# Altium footprint library in3ator_components.PcbLib: 40 footprints (part 3 of 3)
Each footprint in its own frame and in the unit in brackets; x right, y up, seen from the top. Pads: shape width x height; smd on the part's side, far side on the other; paste and mask are expansions set on the pad; w line width, h text height; cw(c..) or ccw(c..) is an arc to the next point about the centre after c.
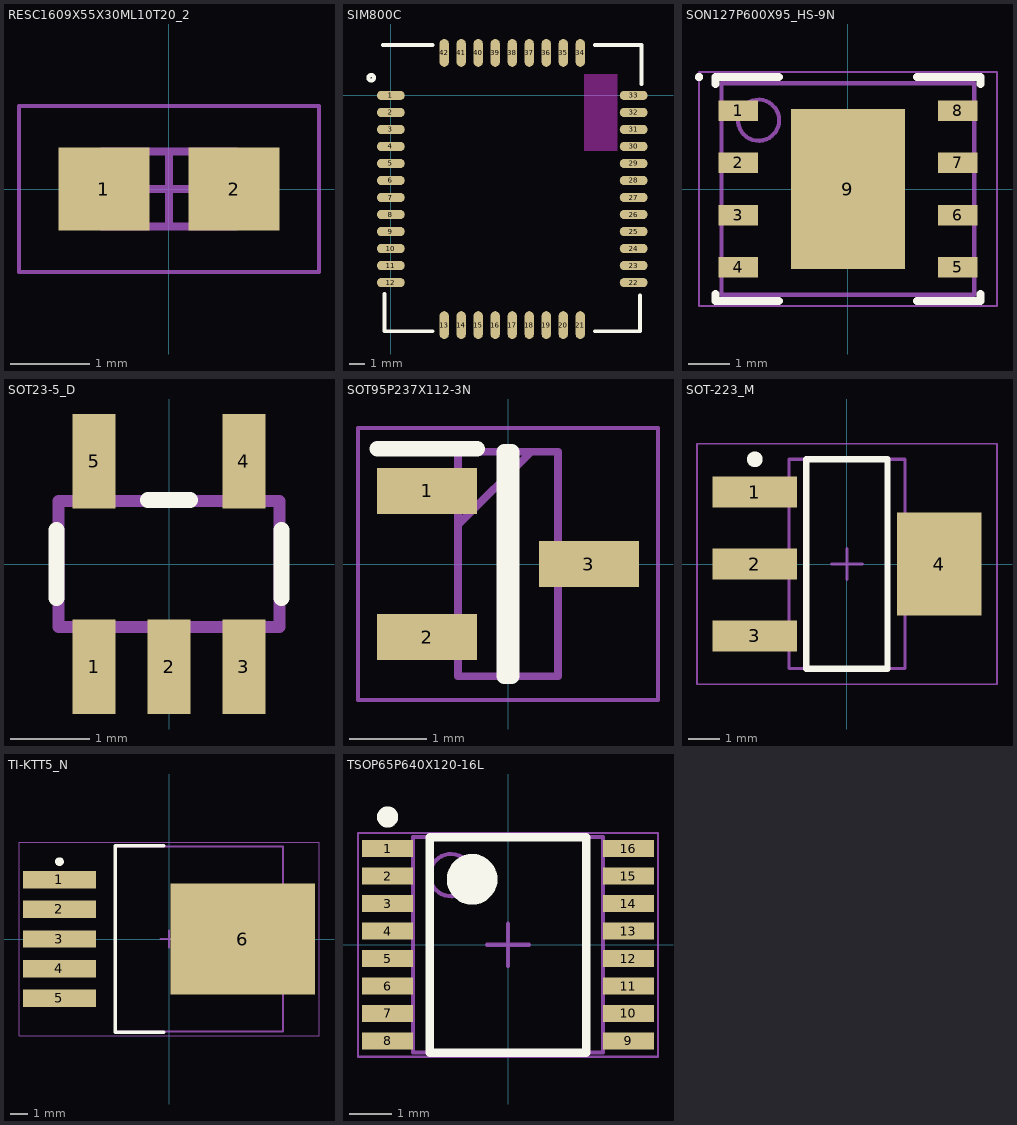
[diagram p2: the footprints below, top view; thin cyan lines are the x and y axes]

## RESC1609X55X30ML10T20_2 [mm]
pads (2):
  rect 1.15x1.05 smd: 1(-0.825,0) 2(0.825,0)
Mechanical 13:
  lines w0.1: -0.85,-0.475 -0.85,0.475 0.85,0.475 0.85,-0.475 -0.85,-0.475
Mechanical 15:
  lines w0.05: -1.9,-1.05 -1.9,1.05 1.9,1.05 1.9,-1.05 -1.9,-1.05
  lines w0.1: -0.475,0 0.475,0 ; 0,-0.475 0,0.475
3D body: height 0.55, standoff 0, extent -0.55,-0.475 0.55,0.475
3D body: height 0.55, standoff 0, extent -0.85,-0.475 -0.55,0.475
3D body: height 0.55, standoff 0, extent 0.55,-0.475 0.85,0.475

## SIM800C [mm]
pads (42):
  oval 1.8x0.6 smd: 1(0,0) 2(0,-1.1) 3(0,-2.2) 4(0,-3.3) 5(0,-4.4) 6(0,-5.5) 7(0,-6.6) 8(0,-7.7) 9(0,-8.8) 10(0,-9.9) 11(0,-11) 12(0,-12.1) 22(15.7,-12.1) 23(15.7,-11) 24(15.7,-9.9) 25(15.7,-8.8) 26(15.7,-7.7) 27(15.7,-6.6) 28(15.7,-5.5) 29(15.7,-4.4) 30(15.7,-3.3) 31(15.7,-2.2) 32(15.7,-1.1) 33(15.7,0)
  oval 0.6x1.8 smd: 13(3.45,-14.85) 14(4.55,-14.85) 15(5.65,-14.85) 16(6.75,-14.85) 17(7.85,-14.85) 18(8.95,-14.85) 19(10.05,-14.85) 20(11.15,-14.85) 21(12.25,-14.85) 34(12.25,2.75) 35(11.15,2.75) 36(10.05,2.75) 37(8.95,2.75) 38(7.85,2.75) 39(6.75,2.75) 40(5.65,2.75) 41(4.55,2.75) 42(3.45,2.75)
Top Overlay:
  circle w0.254: c-1.27,1.143 r0.18
  lines w0.254: -0.5,3.25 2.7,3.25 ; -0.4,-12.85 -0.4,-15.25 2.7,-15.25 ; 13.2,-15.25 16.1,-15.25 16.1,-12.95 ; 13.2,3.25 16.2,3.25 16.2,0.75
Keep-Out Layer:
  pour cut-out: 12.5,1.38 14.65,1.38 14.65,-3.57 12.5,-3.57
3D body "User Library-sim800c_3d.step": height 2.3, standoff 0, extent 0,-14.85 15.7,2.75

## SON127P600X95_HS-9N [mm]
pads (9):
  rect 0.96x0.5 smd: 1(-2.675,1.905) 2(-2.675,0.635) 3(-2.675,-0.635) 4(-2.675,-1.905) 5(2.675,-1.905) 6(2.675,-0.635) 7(2.675,0.635) 8(2.675,1.905)
  rect 2.77x3.9 smd paste-1.385: 9(0,0)
Top Overlay:
  circle w0.1: c-3.625,2.725 r0.05
  lines w0.2: -3.225,-2.555 -3.225,-2.725 -1.685,-2.725 ; -3.225,2.555 -3.225,2.725 -1.685,2.725 ; 1.685,-2.725 3.225,-2.725 3.225,-2.555 ; 1.685,2.725 3.225,2.725 3.225,2.555
Top Paste:
  rectangle: 0.1,-1.85 1.29,-0.75
  rectangle: 0.1,-0.55 1.29,0.55
  rectangle: 0.1,0.75 1.29,1.85
  rectangle: -1.29,-1.85 -0.1,-0.75
  rectangle: -1.29,-0.55 -0.1,0.55
  rectangle: -1.29,0.75 -0.1,1.85
Mechanical 13:
  circle w0.1: c-2.175,1.675 r0.5
  lines w0.1: -3.075,-2.575 3.075,-2.575 3.075,2.575 -3.075,2.575 -3.075,-2.575
Mechanical 15:
  lines w0.05: -3.63,-2.85 3.63,-2.85 3.63,2.85 -3.63,2.85 -3.63,-2.85
  lines w0.1: -0.5,0 0.5,0 ; 0,-0.5 0,0.5
3D body: height 0.95, standoff 0.05, extent -3.075,-2.575 3.075,2.575

## SOT23-5_D [mm]
pads (5):
  rect 0.55x1.2 smd: 1(-0.95,-1.3) 2(0,-1.3) 3(0.95,-1.3) 4(0.95,1.3) 5(-0.95,1.3)
Top Overlay:
  lines w0.203: -1.422,-0.43 -1.422,0.43 ; -0.268,0.811 0.268,0.811 ; 1.422,-0.43 1.422,0.43
Mechanical 13:
  lines w0.152: -1.4,-0.8 -1.4,0.8 1.4,0.8 1.4,-0.8 -1.4,-0.8
3D body "SOT23-5_D.stp": height 1.45, standoff 0, extent -1.45,-1.356 1.45,1.356

## SOT95P237X112-3N [mm]
pads (3):
  rect 1.3x0.6 smd: 1(-1.05,0.95) 2(-1.05,-0.95) 3(1.05,0)
Top Overlay:
  lines w0.2: -1.7,1.5 -0.4,1.5 ; -0.05,-1.46 0.05,-1.46 0.05,1.46 -0.05,1.46 -0.05,-1.46
Mechanical 13:
  lines w0.1: -0.65,0.51 0.3,1.46 ; -0.65,-1.46 0.65,-1.46 0.65,1.46 -0.65,1.46 -0.65,-1.46
Mechanical 15:
  lines w0.05: -1.95,-1.77 1.95,-1.77 1.95,1.77 -1.95,1.77 -1.95,-1.77
3D body "IRLML6402TRPBF.stp": height 1.12, standoff 0, extent -1.185,-1.46 1.185,1.46

## SOT-223_M [mm]
pads (4):
  rect 2.7x1 smd: 1(-2.95,2.3) 2(-2.95,0) 3(-2.95,-2.3)
  rect 2.7x3.3 smd: 4(2.95,0)
Top Overlay:
  circle w0.25: c-2.95,3.35 r0.125
  lines w0.2: -1.3,-3.35 -1.3,3.35 1.3,3.35 1.3,-3.35 -1.3,-3.35
Mechanical 13:
  lines w0.1: -1.85,-3.35 -1.85,3.35 1.85,3.35 1.85,-3.35 -1.85,-3.35
Mechanical 15:
  lines w0.05: -4.8,-3.85 -4.8,3.85 4.8,3.85 4.8,-3.85 -4.8,-3.85
  lines w0.1: -0.5,0 0.5,0 ; 0,-0.5 0,0.5
3D body: height 1.8, standoff 0.02, extent -1.85,-3.35 1.85,3.35

## TI-KTT5_N [mm]
pads (6):
  rect 4.2x1 smd: 1(-6.3,3.4) 2(-6.3,1.7) 3(-6.3,0) 4(-6.3,-1.7) 5(-6.3,-3.4)
  rect 8.3x6.4 smd: 6(4.25,0)
Top Overlay:
  circle w0.25: c-6.3,4.45 r0.125
  lines w0.2: -0.3,-5.35 -3.1,-5.35 -3.1,5.35 -0.3,5.35
Mechanical 13:
  lines w0.1: -3.1,-5.325 6.55,-5.325 6.55,5.325 -3.1,5.325 -3.1,-5.325
Mechanical 15:
  lines w0.05: -8.625,-5.575 8.625,-5.575 8.625,5.575 -8.625,5.575 -8.625,-5.575
  lines w0.1: -0.5,0 0.5,0 ; 0,-0.5 0,0.5
3D body: height 4.83, standoff 0, extent -3.1,-5.325 6.55,5.325

## TSOP65P640X120-16L [mm]
pads (16):
  rect 1.2x0.4 smd: 1(-2.85,2.275) 2(-2.85,1.625) 3(-2.85,0.975) 4(-2.85,0.325) 5(-2.85,-0.325) 6(-2.85,-0.975) 7(-2.85,-1.625) 8(-2.85,-2.275) 9(2.85,-2.275) 10(2.85,-1.625) 11(2.85,-0.975) 12(2.85,-0.325) 13(2.85,0.325) 14(2.85,0.975) 15(2.85,1.625) 16(2.85,2.275)
Top Overlay:
  circle w0.25: c-2.85,3.025 r0.125
  circle w0.6: c-0.85,1.55 r0.3
  lines w0.2: -1.85,-2.55 -1.85,2.55 1.85,2.55 1.85,-2.55 -1.85,-2.55
Mechanical 13:
  circle w0.1: c-1.35,1.65 r0.5
  lines w0.1: -2.25,-2.55 -2.25,2.55 2.25,2.55 2.25,-2.55 -2.25,-2.55
Mechanical 15:
  lines w0.05: -3.55,-2.65 -3.55,2.65 3.55,2.65 3.55,-2.65 -3.55,-2.65
  lines w0.1: -0.5,0 0.5,0 ; 0,-0.5 0,0.5
3D body "16-TSSOP_SN74AVC4T245PWR.stp": height 1.13, standoff 0, extent -3.2,-2.5 3.2,2.5